# Altium schematic symbol library NCV8730_voltage_16to5V.SchLib: 1 symbol
Pins are listed as number, name and electrical type; pins without a type are passive.

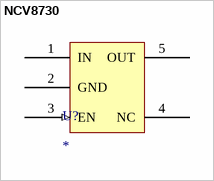
[diagram p0: symbol NCV8730]

## NCV8730
designator U?
footprint NCP164CSN330T1G_Voltage_regulator (For NCP164CSN330T1G_Voltage_regulator and for NCV8730)
pins: 1 IN, 2 GND, 3 EN (in), 4 NC, 5 OUT